# EAGLE library part SX1272 (library Pinoccio)
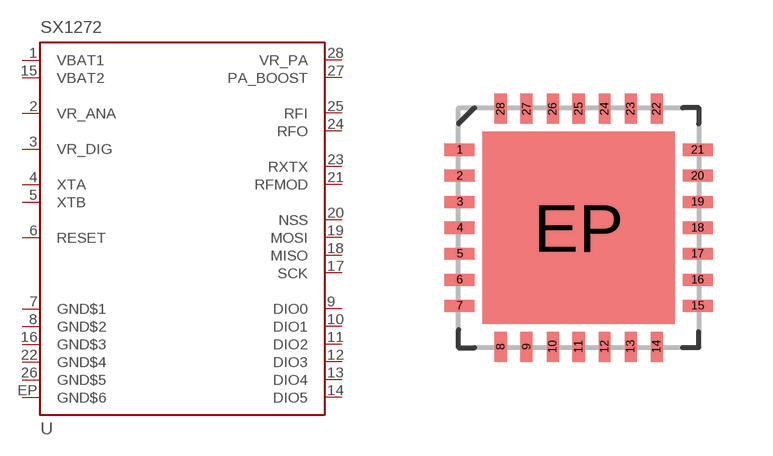
[diagram p49: symbol with the pads of SX1272; footprint SX1272]

Designator prefix -

## SX1272  [SX1272]
1  VBAT1
2  VR_ANA
3  VR_DIG
4  XTA
5  XTB
6  RESET
7  GND$1
8  GND$2
9  DIO0
10  DIO1
11  DIO2
12  DIO3
13  DIO4
14  DIO5
15  VBAT2
16  GND$3
17  SCK
18  MISO
19  MOSI
20  NSS
21  RFMOD
22  GND$4
23  RXTX
24  RFO
25  RFI
26  GND$5
27  PA_BOOST
28  VR_PA
EP  GND$6

## Footprint SX1272 (pad centres in mm)
smd 0.75 x 0.3: 1 -2.975,1.95; 2 -2.975,1.3; 3 -2.975,0.65; 4 -2.975,0; 5 -2.975,-0.65; 6 -2.975,-1.3; 7 -2.975,-1.95; 15 2.975,-1.95; 16 2.975,-1.3; 17 2.975,-0.65; 18 2.975,0; 19 2.975,0.65; 20 2.975,1.3; 21 2.975,1.95
smd 0.3 x 0.75: 8 -1.95,-2.975; 9 -1.3,-2.975; 10 -0.65,-2.975; 11 0,-2.975; 12 0.65,-2.975; 13 1.3,-2.975; 14 1.95,-2.975; 22 1.95,2.975; 23 1.3,2.975; 24 0.65,2.975; 25 0,2.975; 26 -0.65,2.975; 27 -1.3,2.975; 28 -1.95,2.975
smd 4.8 x 4.8: EP 0,0